# Altium footprint library BasicosyConectores.PcbLib: 32 footprints (part 2 of 2)
Each footprint in its own frame and in the unit in brackets; x right, y up, seen from the top. Pads: shape width x height; smd on the part's side, far side on the other; paste and mask are expansions set on the pad; w line width, h text height; cw(c..) or ccw(c..) is an arc to the next point about the centre after c.
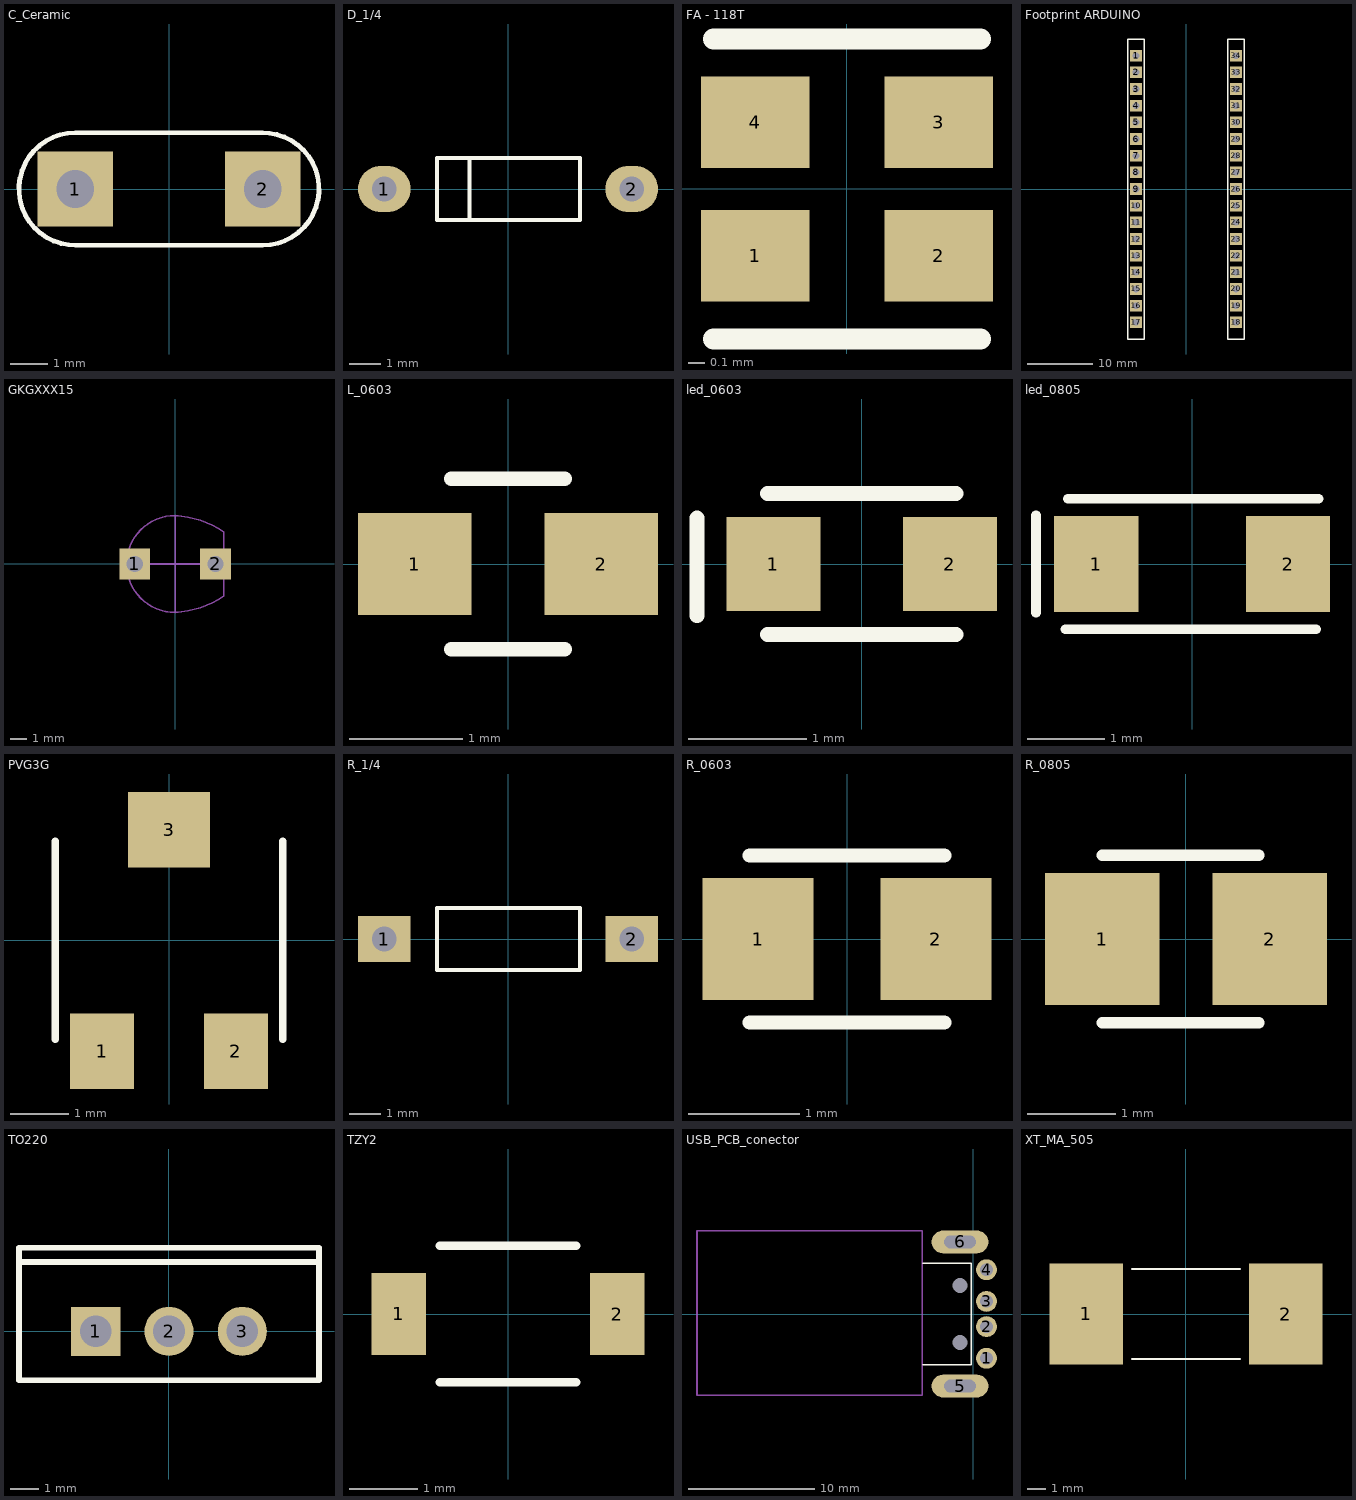
[diagram p1: the footprints below, top view; thin cyan lines are the x and y axes]

## C_Ceramic [mm] "Ceramic Capacitor"
pads (2):
  rect 2x2 hole 1 unplated: 1(-2.5,0) 2(2.5,0)
Top Overlay:
  lines w0.127: -2.5,-1.5 2.5,-1.5 ccw(c2.5,0) 2.475,1.5 ; -2.475,-1.5 cw(c-2.5,0) -2.5,1.5 2.5,1.5

## D_1/4 [mm] "Diodo de 1/4 W"
pads (2):
  oval 1.7x1.5 hole 0.8: 1(-4,0) 2(4,0)
Top Overlay:
  lines w0.127: -1.25,-1 -1.25,1 ; 2.3,-1 -2.3,-1 -2.3,1 2.325,1 2.325,-1

## FA - 118T [mm] "Crystal SMD"
pads (4):
  rect 0.65x0.55 smd: 1(-0.55,-0.4) 2(0.55,-0.4) 3(0.55,0.4) 4(-0.55,0.4)
Top Overlay:
  lines w0.127: -0.8,-0.9 0.8,-0.9 ; -0.8,0.9 0.8,0.9

## Footprint ARDUINO [mm] "17 PINES X2 COLUMNAS"
pads (34):
  rect 1.8x1.8 hole 1.016: 1(-7.62,20.32) 2(-7.62,17.78) 3(-7.62,15.24) 4(-7.62,12.7) 5(-7.62,10.16) 6(-7.62,7.62) 7(-7.62,5.08) 8(-7.62,2.54) 9(-7.62,0) 10(-7.62,-2.54) 11(-7.62,-5.08) 12(-7.62,-7.62) 13(-7.62,-10.16) 14(-7.62,-12.7) 15(-7.62,-15.24) 16(-7.62,-17.78) 17(-7.62,-20.32) 18(7.62,-20.32) 19(7.62,-17.78) 20(7.62,-15.24) 21(7.62,-12.7) 22(7.62,-10.16) 23(7.62,-7.62) 24(7.62,-5.08) 25(7.62,-2.54) 26(7.62,0) 27(7.62,2.54) 28(7.62,5.08) 29(7.62,7.62) 30(7.62,10.16) 31(7.62,12.7) 32(7.62,15.24) 33(7.62,17.78) 34(7.62,20.32)
Top Overlay:
  lines w0.2: -8.89,-22.86 -6.35,-22.86 -6.35,22.86 -8.89,22.86 -8.89,-22.86 ; 6.35,-22.86 6.35,22.86 8.89,22.86 8.89,-22.86 6.35,-22.86

## GKGXXX15 [mm]
pads (2):
  rect 1.9x1.9 hole 1: 1(-2.5,0) 2(2.5,0)
Mechanical 1:
  lines w0.1: 0,-2.5 0,2.5 ; 3,0 -3,0 ; -3,0 ccw(c0,0) 0,-3 ; -3,0 cw(c0,0) 0,3 ; 0,-3 ccw(c-0.378,3.135) 3,-2 3,2 ccw(c-0.378,-3.135) 0,3 ; 0,-3 0,3

## L_0603 [mm]
pads (2):
  rect 1x0.9 smd: 1(-0.82,0) 2(0.82,0)
Top Overlay:
  lines w0.127: -0.5,-0.75 0.5,-0.75 ; -0.5,0.75 0.5,0.75

## led_0603 [mm]
pads (2):
  rect 0.8x0.8 smd: 1(-0.75,0) 2(0.75,0)
Top Overlay:
  lines w0.127: -1.4,-0.44 -1.4,0.39 ; -0.8,-0.6 0.8,-0.6 ; -0.8,0.6 0.8,0.6

## led_0805 [mm]
pads (2):
  rect 1.1x1.25 smd: 1(-1.25,0) 2(1.25,0)
Top Overlay:
  lines w0.127: -2.032,-0.635 -2.032,0.635 ; -1.651,-0.85 1.619,-0.85 ; -1.619,0.85 1.651,0.85

## PVG3G [mm] "SMD Potenciometro"
pads (3):
  rect 1.1x1.3 smd: 1(-1.15,-1.9) 2(1.15,-1.9)
  rect 1.4x1.3 smd: 3(0,1.9)
Top Overlay:
  lines w0.127: -1.95,-1.7 -1.95,1.7 ; 1.95,-1.7 1.95,1.7

## R_1/4 [mm] "Resistencia de 1/4 W"
pads (2):
  rect 1.7x1.5 hole 0.8: 1(-4,0) 2(4,0)
Top Overlay:
  lines w0.127: 2.3,-1 -2.3,-1 -2.3,1 2.325,1 2.325,-1

## R_0603 [mm]
pads (2):
  rect 1x1.1 smd: 1(-0.8,0) 2(0.8,0)
Top Overlay:
  lines w0.127: -0.875,-0.75 0.875,-0.75 ; -0.875,0.75 0.875,0.75

## R_0805 [mm]
pads (2):
  rect 1.3x1.5 smd: 1(-0.95,0) 2(0.95,0)
Top Overlay:
  lines w0.127: -0.95,-0.95 0.828,-0.95 ; -0.95,0.95 0.828,0.95

## TO220 [mm] "TO, Thru-Hole, Vertical, Heatsink Mounted; 3 In-Line Leads; Pitch 2.54 mm; Pin sequence 1, 3, 2"
height 19.4
pads (3):
  rect 1.7x1.7 hole 1.1: 1(-2.54,0)
  round 1.7 hole 1.1: 2(0,0) 3(2.54,0)
Top Overlay:
  lines w0.2: -5.2,2.4 5.2,2.4 ; -5.2,-1.7 5.2,-1.7 5.2,2.9 -5.2,2.9 -5.2,-1.7

## TZY2 [mm]
pads (2):
  rect 0.8x1.2 smd: 1(-1.6,0) 2(1.6,0)
Top Overlay:
  lines w0.127: -1,-1 1,-1 ; -1,1 1,1

## USB_PCB_conector [mm]
pads (8):
  round 0 hole 1.175: 0(-1.05,-2.25)
  round 0 hole 1.175 unplated: 0(-1.05,2.25)
  round 1.65 hole 1: 1(1.05,-3.5) 2(1.05,-1) 3(1.05,1) 4(1.05,3.5)
  oval 4.5x1.8 hole 1 slot 2.5 at 0 deg: 5(-1.05,-5.7) 6(-1.05,5.7)
Top Overlay:
  lines w0.127: -4,-4 -0.16,-4 -0.16,4 -4,4
Mechanical 3:
  lines w0.127: -4.05,2.7 -4.05,6.57 -21.85,6.57 -21.85,-6.43 -4.05,-6.43 -4.05,-4 -4.05,4

## XT_MA_505 [mm] "Crystal SMD MA-505"
pads (2):
  rect 4.1x5.6 smd: 1(-5.55,0) 2(5.55,0)
Top Overlay:
  lines w0.127: -3,-2.5 3,-2.5 ; -3,2.5 3,2.5